# Altium footprint library KN2CLib.PcbLib: 124 footprints (part 4 of 8)
Each footprint in its own frame and in the unit in brackets; x right, y up, seen from the top. Pads: shape width x height; smd on the part's side, far side on the other; paste and mask are expansions set on the pad; w line width, h text height; cw(c..) or ccw(c..) is an arc to the next point about the centre after c.
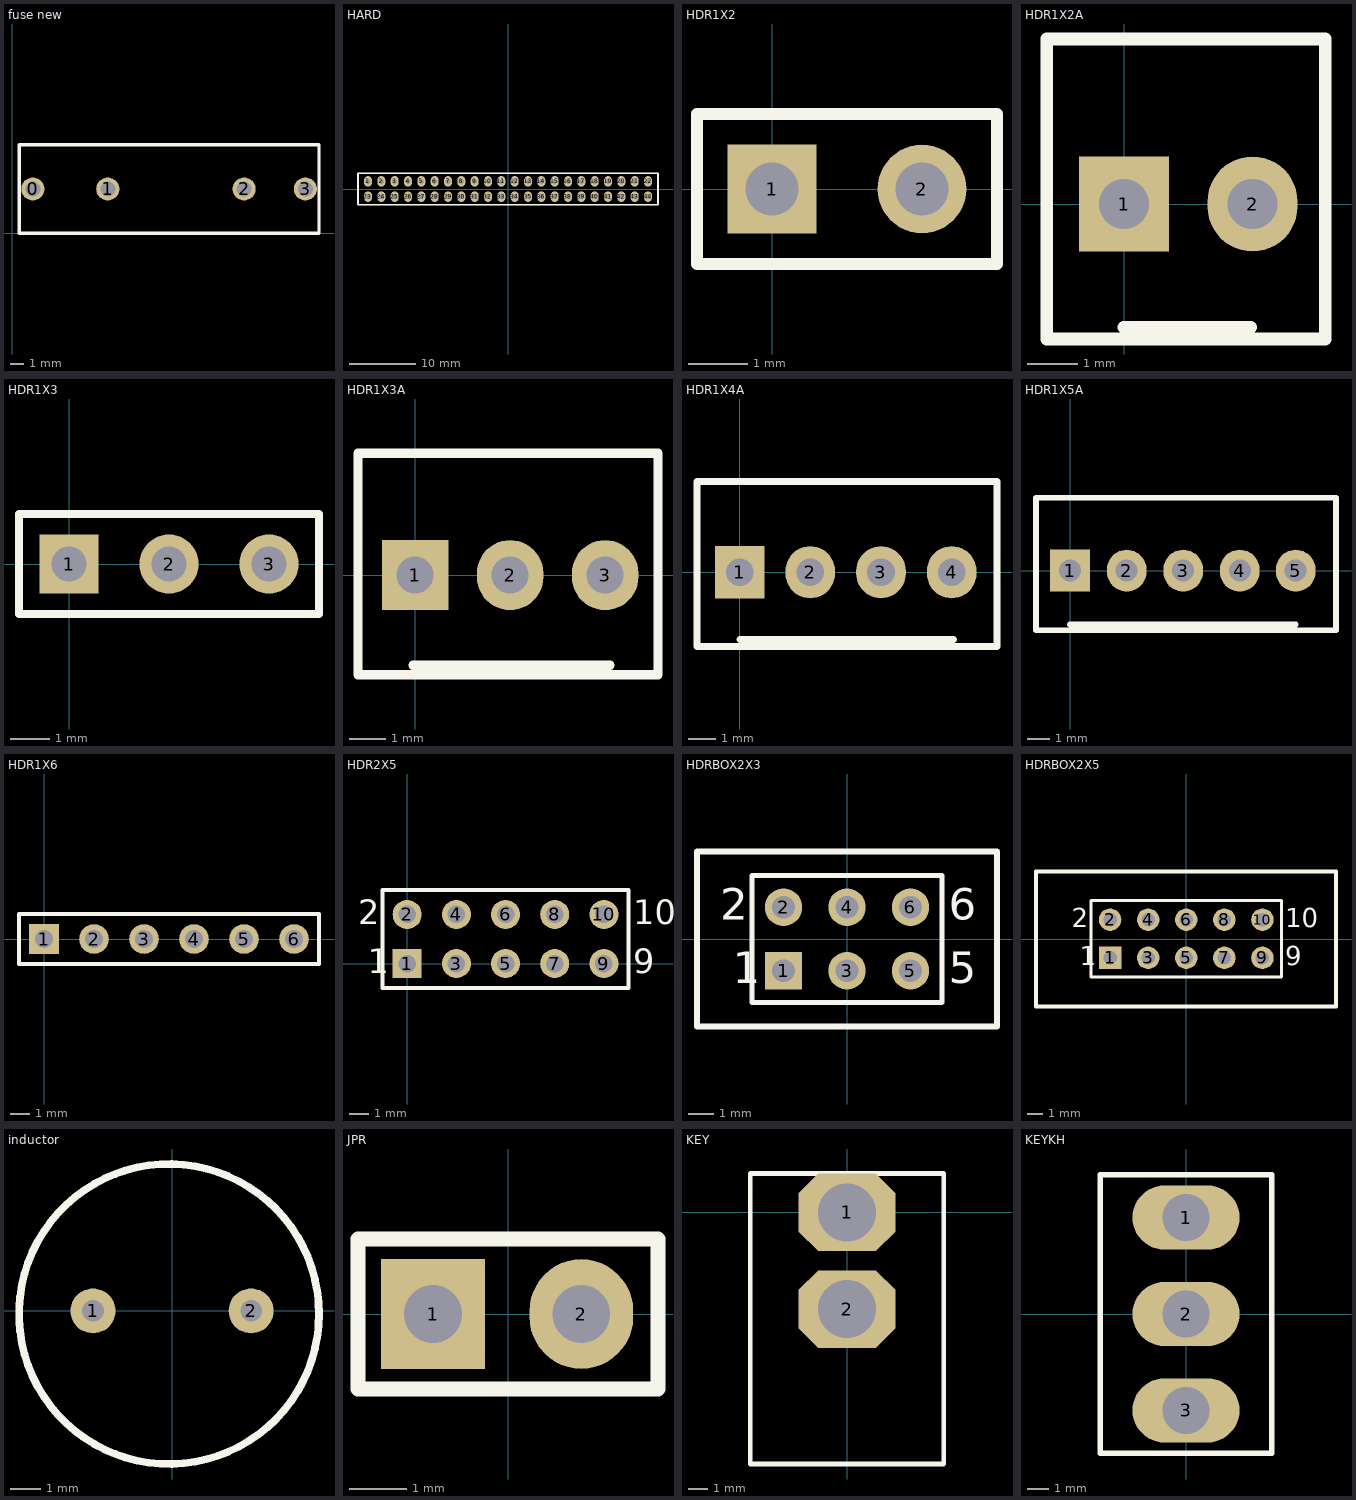
[diagram p3: the footprints below, top view; thin cyan lines are the x and y axes]

## fuse new [mm]
pads (4):
  round 1.7 hole 1.1: 0(1.5,3.25) 1(7,3.25) 2(17,3.25) 3(21.5,3.25)
Top Overlay:
  lines w0.254: 0.483,6.5 22.479,6.5 ; 0.5,0 0.5,6.5 ; 0.508,0 22.5,0 22.5,6.5

## HARD [mm]
pads (44):
  oval 1.2x1.6 hole 0.762: 1(-21,1.15) 2(-19,1.15) 3(-17,1.15) 4(-15,1.15) 5(-13,1.15) 6(-11,1.15) 7(-9,1.15) 8(-7,1.15) 9(-5,1.15) 10(-3,1.15) 11(-1,1.15) 12(1,1.15) 13(3,1.15) 14(5,1.15) 15(7,1.15) 16(9,1.15) 17(11,1.15) 18(13,1.15) 19(15,1.15) 20(17,1.15) 21(19,1.15) 22(21,1.15) 23(-21,-1.15) 24(-19,-1.15) 25(-17,-1.15) 26(-15,-1.15) 27(-13,-1.15) 28(-11,-1.15) 29(-9,-1.15) 30(-7,-1.15) 31(-5,-1.15) 32(-3,-1.15) 33(-1,-1.15) 34(1,-1.15) 35(3,-1.15) 36(5,-1.15) 37(7,-1.15) 38(9,-1.15) 39(11,-1.15) 40(13,-1.15) 41(15,-1.15) 42(17,-1.15) 43(19,-1.15) 44(21,-1.15)
Top Overlay:
  lines w0.254: -22.5,-2.35 22.5,-2.35 22.5,2.35 -22.5,2.35 -22.5,-2.35

## HDR1X2 [mm] "Connector; Header; 2 Position"
height 1.75
pads (2):
  rect 1.5x1.5 hole 0.9: 1(0,0)
  round 1.5 hole 0.9: 2(2.54,0)
Top Overlay:
  lines w0.2: -1.27,-1.27 3.81,-1.27 3.81,1.27 -1.27,1.27 -1.27,-1.27
3D body: height 4, standoff 0, extent -1.375,-1.375 3.9,1.375

## HDR1X2A [mm]
pads (2):
  rect 1.8x1.9 hole 1: 1(0,0)
  oval 1.8x1.9 hole 1: 2(2.57,0)
Top Overlay:
  lines w0.254: -0.005,-2.464 2.53,-2.464 ; -1.545,-2.7 4.02,-2.7 4.02,3.3 -1.545,3.3 -1.545,-2.7
3D body: height 4, standoff 0, extent -1.45,-2.575 3.9,3.2

## HDR1X3 [mm] "Connector; Header; 3 Position"
height 4.69
pads (3):
  rect 1.5x1.5 hole 0.9: 1(0,0)
  round 1.5 hole 0.9: 2(2.54,0) 3(5.08,0)
Top Overlay:
  lines w0.2: -1.27,-1.27 -1.27,1.27 6.35,1.27 6.35,-1.27 -1.27,-1.27

## HDR1X3A [mm]
pads (3):
  rect 1.8x1.9 hole 1: 1(0,0)
  oval 1.8x1.9 hole 1: 2(2.57,0) 3(5.14,0)
Top Overlay:
  lines w0.254: -0.058,-2.441 5.273,-2.441 ; -1.545,-2.7 -1.545,3.3 6.57,3.3 6.57,-2.7 -1.545,-2.7
3D body: height 4, standoff 0, extent -1.425,-2.55 6.45,3.15

## HDR1X4A [mm]
pads (4):
  rect 1.8x1.9 hole 1: 1(0,0)
  oval 1.8x1.9 hole 1: 2(2.57,0) 3(5.14,0) 4(7.71,0)
Top Overlay:
  lines w0.254: 0.01,-2.449 7.767,-2.449 ; -1.545,-2.7 9.355,-2.7 9.355,3.3 -1.545,3.3 -1.545,-2.7
3D body: height 4, standoff 0, extent -1.425,-2.55 9.225,3.15

## HDR1X5A [mm]
pads (5):
  rect 1.8x1.9 hole 1: 1(0,0)
  oval 1.8x1.9 hole 1: 2(2.57,0) 3(5.14,0) 4(7.71,0) 5(10.25,0)
Top Overlay:
  lines w0.254: 0,-2.449 10.25,-2.449 ; -1.545,-2.7 -1.545,3.3 12.08,3.3 12.08,-2.7 -1.545,-2.7
3D body: height 4, standoff 0, extent -1.425,-2.575 11.95,3.175

## HDR1X6 [mm] "Connector; Header; 6 Position"
height 2.54
pads (6):
  rect 1.5x1.5 hole 0.9: 1(0,0)
  round 1.5 hole 0.9: 2(2.54,0) 3(5.08,0) 4(7.62,0) 5(10.16,0) 6(12.7,0)
Top Overlay:
  lines w0.2: -1.27,-1.27 13.97,-1.27 13.97,1.27 -1.27,1.27 -1.27,-1.27
3D body: height 4, standoff 0, extent -1.25,-1.275 14,1.25

## HDR2X5 [mm] "Connector; Header; 5x2 Position"
pads (10):
  rect 1.5x1.5 hole 0.9: 1(0,0)
  round 1.5 hole 0.9: 2(0,2.54) 3(2.54,0) 4(2.54,2.54) 5(5.08,0) 6(5.08,2.54) 7(7.62,0) 8(7.62,2.54) 9(10.16,0) 10(10.16,2.54)
Top Overlay:
  lines w0.2: -1.27,-1.27 -1.27,3.81 11.43,3.81 11.43,-1.27 -1.27,-1.27
  text "2" at -2.54,2.032 h1.27
  text "1" at -2.032,-0.508 h1.27
  text "9" at 11.684,-0.508 h1.27
  text "10" at 11.684,2.032 h1.27
3D body: height 4, standoff 0, extent -1.275,-1.25 11.45,3.8

## HDRBOX2X3 [mm]
pads (6):
  rect 1.5x1.5 hole 0.9: 1(-2.54,-1.27)
  round 1.5 hole 0.9: 2(-2.54,1.27) 3(0,-1.27) 4(0,1.27) 5(2.54,-1.27) 6(2.54,1.27)
Top Overlay:
  lines w0.2: -1.058,-2.54 3.81,-2.54 ; 3.81,-2.54 3.81,2.54 -3.81,2.54 -3.81,-2.54 3.81,-2.54
  lines w0.254: -6,-3.5 -6,3.5 6,3.5 6,-3.5 -6,-3.5
  text "6" at 4.064,0.762 h1.27
  text "5" at 4.064,-1.778 h1.27
  text "2" at -5.08,0.762 h1.27
  text "1" at -4.572,-1.778 h1.27
3D body: height 4, standoff 0, extent -6,-3.525 6,3.475

## HDRBOX2X5 [mm]
pads (10):
  rect 1.5x1.5 hole 0.9: 1(-5.062,-1.254)
  round 1.5 hole 0.9: 2(-5.062,1.286) 3(-2.522,-1.254) 4(-2.522,1.286) 5(0.018,-1.254) 6(0.018,1.286) 7(2.558,-1.254) 8(2.558,1.286) 9(5.098,-1.254) 10(5.098,1.286)
Top Overlay:
  lines w0.2: -6.332,-2.524 6.368,-2.524 6.368,2.556 -6.332,2.556 -6.332,-2.524
  lines w0.254: -10,-4.5 10,-4.5 10,4.5 -10,4.5 -10,-4.5
  text "10" at 6.622,0.778 h1.27
  text "9" at 6.622,-1.762 h1.27
  text "1" at -7.094,-1.762 h1.27
  text "2" at -7.602,0.778 h1.27
3D body: height 4, standoff 0, extent -10.025,-4.525 -9.975,4.45

## inductor [mm]
pads (2):
  round 1.5 hole 0.72: 1(-2.64,0) 2(2.64,0)
Top Overlay:
  circle w0.254: c-0.102,-0.102 r5.01

## JPR [mm] "Jumper"
pads (2):
  rect 1.8x1.9 hole 1: 1(-1.3,0)
  oval 1.8x1.9 hole 1: 2(1.27,0)
Top Overlay:
  lines w0.254: -2.6,-1.3 2.6,-1.3 2.6,1.3 -2.6,1.3 -2.6,-1.3
3D body: height 9.6, standoff 0, extent -2.575,-1.3 2.575,1.3

## KEY [mm]
pads (2):
  oct 5x4 hole 3: 1(0,0) 2(0,-5)
Top Overlay:
  lines w0.254: -5,-13 5,-13 5,2 -5,2 -5,-13
3D body: height 4, standoff 0, extent -5.075,-12.975 4.95,2.025

## KEYKH [mm]
pads (3):
  oval 5x3 hole 2.2: 1(0,4.5) 2(0,0) 3(0,-4.5)
Top Overlay:
  lines w0.254: -4,-6.5 -4,6.5 4,6.5 4,-6.5 -4,-6.5
3D body: height 4, standoff 0, extent -3.975,-6.45 3.95,6.5